# Altium footprint library TQFN24-EP.PcbLib: 1 footprints
Each footprint in its own frame and in the unit in brackets; x right, y up, seen from the top. Pads: shape width x height; smd on the part's side, far side on the other; paste and mask are expansions set on the pad; w line width, h text height; cw(c..) or ccw(c..) is an arc to the next point about the centre after c.
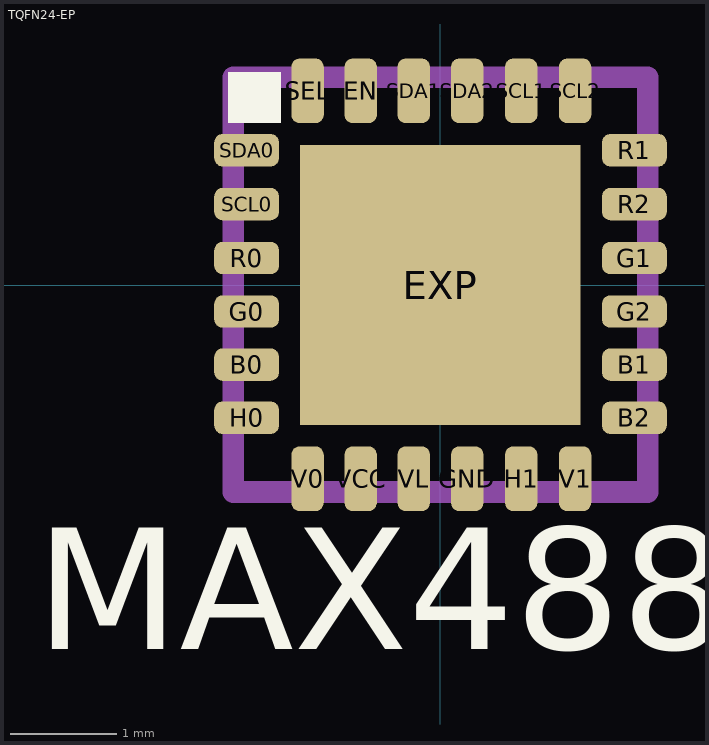
[diagram p0: the footprint, top view; thin cyan lines are the x and y axes]

## TQFN24-EP [mil]
pads (25):
  rrect50% 24x12 smd: B0(-71.85,-29.53) B1(72,-29.53) B2(72,-49.21) G0(-71.85,-9.84) G1(72,10) G2(72,-9.84) H0(-71.85,-49.21) R0(-71.85,10) R1(72,50) R2(72,30) SCL0(-71.85,30) SDA0(-71.85,50)
  rrect50% 12x24 smd: EN(-29.53,72) GND(10,-71.85) H1(30,-71.85) SCL1(30,72) SCL2(50,72) SDA1(-9.84,72) SDA2(10,72) SEL(-49.21,72) V0(-49.21,-71.85) V1(50,-71.85) VCC(-29.53,-71.85) VL(-9.84,-71.85)
  rect 104x104 smd: EXP(0,0)
Top Overlay:
  rectangle: -78.74,60 -59.06,79
  text "MAX4885E" at -150,-150 h77.5
Top Paste:
  rectangle: -82.68,45 -61.02,55
  rectangle: -45.28,-46.26 46,48
  rectangle: -82.68,25 -61.02,35
  rectangle: -82.68,5 -61.02,15
  rectangle: -82.68,-14.76 -61.02,-4.92
  rectangle: -82.68,-34.45 -61.02,-24.61
  rectangle: -82.68,-54.13 -61.02,-44.29
  region: -44.29,-82.68 -44.29,-61.02 -54.13,-61.02 -54.13,-82.68
  region: -24.61,-82.68 -24.61,-61.02 -34.45,-61.02 -34.45,-82.68
  region: -4.91,-82.69 -4.91,-61.02 -14.76,-61.02 -14.76,-82.69
  region: 14.93,-82.84 14.93,-60.86 5.09,-60.86 5.09,-82.84
  region: 34.92,-82.85 34.92,-60.85 25.08,-60.85 25.08,-82.85
  region: 54.92,-82.85 54.92,-60.85 45.08,-60.85 45.08,-82.85
  region: 83,-44.29 62,-44.29 62,-54.13 83,-54.13
  region: 83,-24.61 62,-24.61 62,-34.45 83,-34.45
  region: 83,-4.92 62,-4.92 62,-14.76 83,-14.76
  region: 83,15 62,15 62,5 83,5
  region: 83,35 62,35 62,25 83,25
  region: 83,55 62,55 62,45 83,45
  region: 45,83 45,61 55,61 55,83
  region: 25,83 25,61 35,61 35,83
  region: 5.01,82.99 5.01,61.01 15.01,61.01 15.01,82.99
  region: -14.83,82.83 -14.83,61.17 -4.83,61.17 -4.83,82.83
  region: -34.53,82.83 -34.53,61.17 -24.53,61.17 -24.53,82.83
  region: -54.21,82.83 -54.21,61.17 -44.21,61.17 -44.21,82.83
Top Solder:
  rectangle: -85.63,43 -60.04,57
  rectangle: -53.15,-53.15 54,54
  rectangle: -85.63,23 -60.04,37
  rectangle: -85.63,3 -60.04,17
  rectangle: -85.63,-16.73 -60.04,-2.95
  rectangle: -85.63,-36.42 -60.04,-22.64
  rectangle: -85.63,-56.1 -60.04,-42.32
  region: -42.32,-85.63 -42.32,-60.04 -56.1,-60.04 -56.1,-85.63
  region: -22.64,-85.63 -22.64,-60.04 -36.42,-60.04 -36.42,-85.63
  region: -2.93,-85.65 -2.93,-60.02 -16.71,-60.02 -16.71,-85.65
  region: 16.91,-85.81 16.91,-59.86 3.13,-59.86 3.13,-85.81
  region: 36.89,-85.83 36.89,-59.83 23.11,-59.83 23.11,-85.83
  region: 56.89,-85.83 56.89,-59.83 43.11,-59.83 43.11,-85.83
  region: 86,-42.32 61,-42.32 61,-56.1 86,-56.1
  region: 86,-22.64 61,-22.64 61,-36.42 86,-36.42
  region: 86,-2.95 61,-2.95 61,-16.73 86,-16.73
  region: 86,17 61,17 61,3 86,3
  region: 86,37 61,37 61,23 86,23
  region: 86,57 61,57 61,43 86,43
  region: 43,86 43,60 57,60 57,86
  region: 23,86 23,60 37,60 37,86
  region: 3.02,85.98 3.02,60.02 17.02,60.02 17.02,85.98
  region: -16.82,85.82 -16.82,60.18 -2.82,60.18 -2.82,85.82
  region: -36.53,85.8 -36.53,60.2 -22.53,60.2 -22.53,85.8
  region: -56.21,85.8 -56.21,60.2 -42.21,60.2 -42.21,85.8
Mechanical 2:
Mechanical 4:
Mechanical 16:
  rectangle: -78.74,45 -62.01,55
  rectangle: -78.74,25 -62.01,35
  rectangle: -78.74,5 -62.01,15
  rectangle: -78.74,-14.76 -62.01,-4.92
  rectangle: -78.74,-34.45 -62.01,-24.61
  rectangle: -78.74,-54.13 -62.01,-44.29
  region: -44.29,-78.74 -44.29,-62.01 -54.13,-62.01 -54.13,-78.74
  region: -24.61,-78.74 -24.61,-62.01 -34.45,-62.01 -34.45,-78.74
  region: -4.92,-78.74 -4.92,-62.01 -14.76,-62.01 -14.76,-78.74
  region: 15.42,-78.87 15.42,-61.87 5.58,-61.87 5.58,-78.87
  region: 34.92,-78.37 34.92,-62.37 25.08,-62.37 25.08,-78.37
  region: 54.42,-78.87 54.42,-61.87 44.58,-61.87 44.58,-78.87
  region: 79,-44.29 63,-44.29 63,-54.13 79,-54.13
  region: 79,-24.61 63,-24.61 63,-34.45 79,-34.45
  region: 79,-4.92 63,-4.92 63,-14.76 79,-14.76
  region: 79,15 63,15 63,5 79,5
  region: 79,35 63,35 63,25 79,25
  region: 79,55 63,55 63,45 79,45
  region: 44.5,79.5 44.5,62.5 54.5,62.5 54.5,79.5
  region: 25,79 25,63 35,63 35,79
  region: 5.5,79.5 5.5,62.5 15.5,62.5 15.5,79.5
  region: -14.84,79.37 -14.84,62.63 -4.84,62.63 -4.84,79.37
  region: -34.53,79.37 -34.53,62.63 -24.53,62.63 -24.53,79.37
  region: -54.21,79.37 -54.21,62.63 -44.21,62.63 -44.21,79.37
  lines w8: -76.77,-76.77 77,-76.77 77,77 -76.77,77 -76.77,-76.77